# EAGLE library part XS1-L1 (library xmos)
XS1-L1 64 TQFP - Central pad is GND
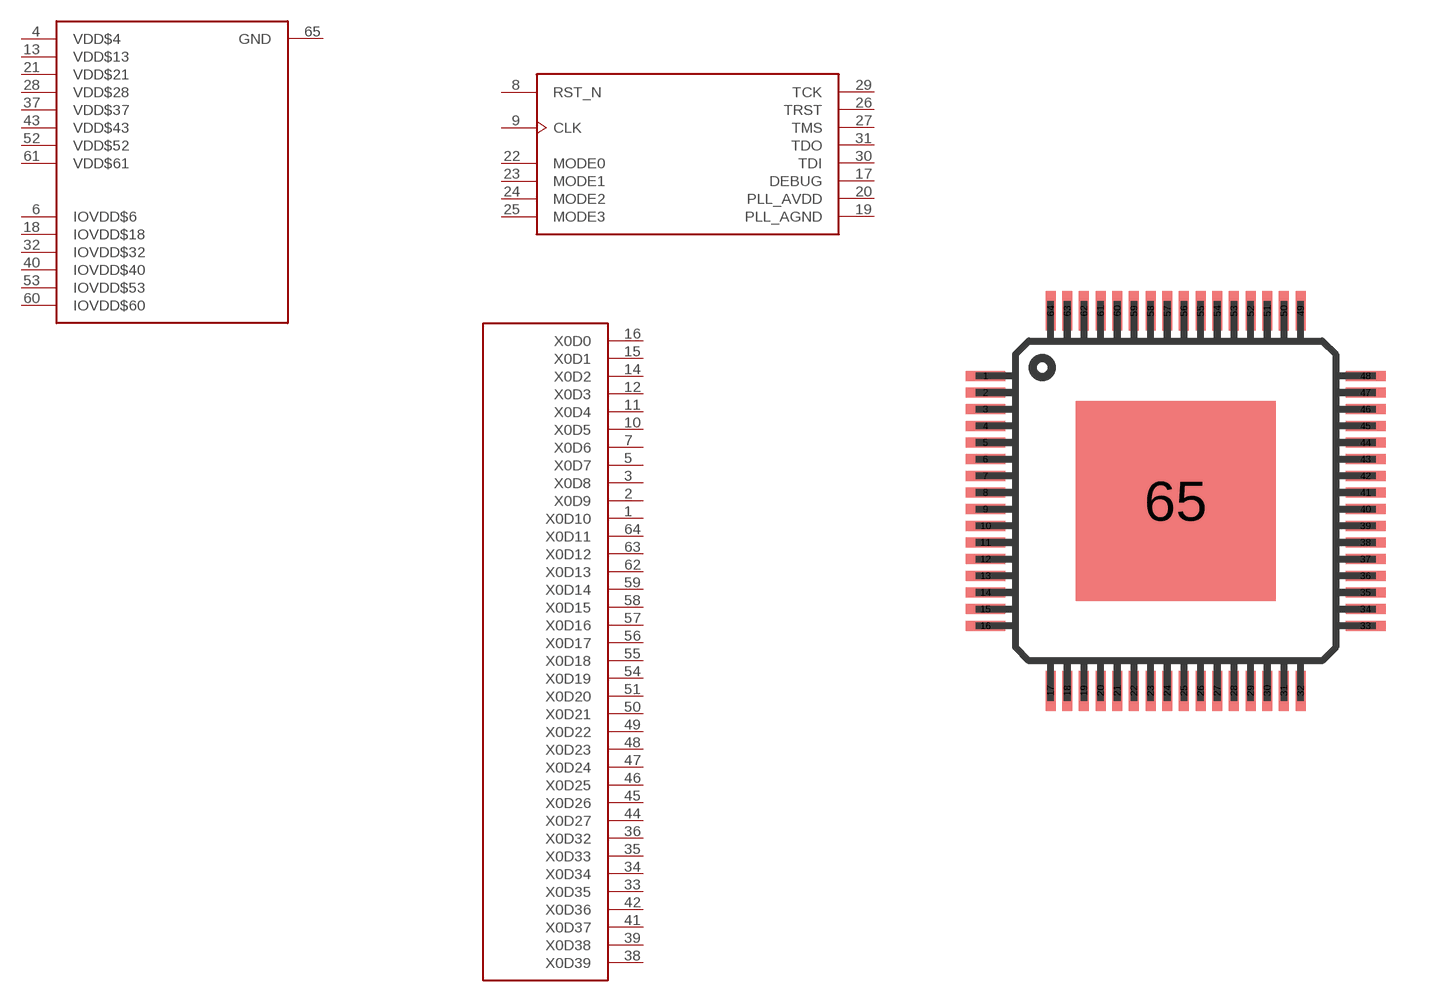
[diagram p1: symbol with the pads of TQFP64-10X10; footprint TQFP64-10X10]

Designator prefix U; gates G$1=XS1-L1-PWR G$2=XS1-L1-SYS G$3=XS1-L1-XC0

## XS1-L1  [TQFP64-10X10]
1  G$3:X0D10
2  G$3:X0D9
3  G$3:X0D8
4  G$1:VDD$4  pwr
5  G$3:X0D7
6  G$1:IOVDD$6  pwr
7  G$3:X0D6
8  G$2:RST_N
9  G$2:CLK  in
10  G$3:X0D5
11  G$3:X0D4
12  G$3:X0D3
13  G$1:VDD$13  pwr
14  G$3:X0D2
15  G$3:X0D1
16  G$3:X0D0
17  G$2:DEBUG
18  G$1:IOVDD$18  pwr
19  G$2:PLL_AGND
20  G$2:PLL_AVDD
21  G$1:VDD$21  pwr
22  G$2:MODE0
23  G$2:MODE1
24  G$2:MODE2
25  G$2:MODE3
26  G$2:TRST
27  G$2:TMS
28  G$1:VDD$28  pwr
29  G$2:TCK
30  G$2:TDI
31  G$2:TDO
32  G$1:IOVDD$32  pwr
33  G$3:X0D35
34  G$3:X0D34
35  G$3:X0D33
36  G$3:X0D32
37  G$1:VDD$37  pwr
38  G$3:X0D39
39  G$3:X0D38
40  G$1:IOVDD$40  pwr
41  G$3:X0D37
42  G$3:X0D36
43  G$1:VDD$43  pwr
44  G$3:X0D27
45  G$3:X0D26
46  G$3:X0D25
47  G$3:X0D24
48  G$3:X0D23
49  G$3:X0D22
50  G$3:X0D21
51  G$3:X0D20
52  G$1:VDD$52  pwr
53  G$1:IOVDD$53  pwr
54  G$3:X0D19
55  G$3:X0D18
56  G$3:X0D17
57  G$3:X0D16
58  G$3:X0D15
59  G$3:X0D14
60  G$1:IOVDD$60  pwr
61  G$1:VDD$61  pwr
62  G$3:X0D13
63  G$3:X0D12
64  G$3:X0D11
65  G$1:GND  pwr

## Footprint TQFP64-10X10 (pad centres in mm)
Thin Quad Flat Pack package type TQ
smd 1.2 x 0.3: 1 -5.7,3.75; 2 -5.7,3.25; 3 -5.7,2.75; 4 -5.7,2.25; 5 -5.7,1.75; 6 -5.7,1.25; 7 -5.7,0.75; 8 -5.7,0.25; 9 -5.7,-0.25; 10 -5.7,-0.75; 11 -5.7,-1.25; 12 -5.7,-1.75; 13 -5.7,-2.25; 14 -5.7,-2.75; 15 -5.7,-3.25; 16 -5.7,-3.75; 33 5.7,-3.75; 34 5.7,-3.25; 35 5.7,-2.75; 36 5.7,-2.25; 37 5.7,-1.75; 38 5.7,-1.25; 39 5.7,-0.75; 40 5.7,-0.25; 41 5.7,0.25; 42 5.7,0.75; 43 5.7,1.25; 44 5.7,1.75; 45 5.7,2.25; 46 5.7,2.75; 47 5.7,3.25; 48 5.7,3.75
smd 0.3 x 1.2: 17 -3.75,-5.7; 18 -3.25,-5.7; 19 -2.75,-5.7; 20 -2.25,-5.7; 21 -1.75,-5.7; 22 -1.25,-5.7; 23 -0.75,-5.7; 24 -0.25,-5.7; 25 0.25,-5.7; 26 0.75,-5.7; 27 1.25,-5.7; 28 1.75,-5.7; 29 2.25,-5.7; 30 2.75,-5.7; 31 3.25,-5.7; 32 3.75,-5.7; 49 3.75,5.7; 50 3.25,5.7; 51 2.75,5.7; 52 2.25,5.7; 53 1.75,5.7; 54 1.25,5.7; 55 0.75,5.7; 56 0.25,5.7; 57 -0.25,5.7; 58 -0.75,5.7; 59 -1.25,5.7; 60 -1.75,5.7; 61 -2.25,5.7; 62 -2.75,5.7; 63 -3.25,5.7; 64 -3.75,5.7
smd 6 x 6: 65 0,0